# Altium footprint library misc.PcbLib: 32 footprints (part 2 of 2)
Each footprint in its own frame and in the unit in brackets; x right, y up, seen from the top. Pads: shape width x height; smd on the part's side, far side on the other; paste and mask are expansions set on the pad; w line width, h text height; cw(c..) or ccw(c..) is an arc to the next point about the centre after c.
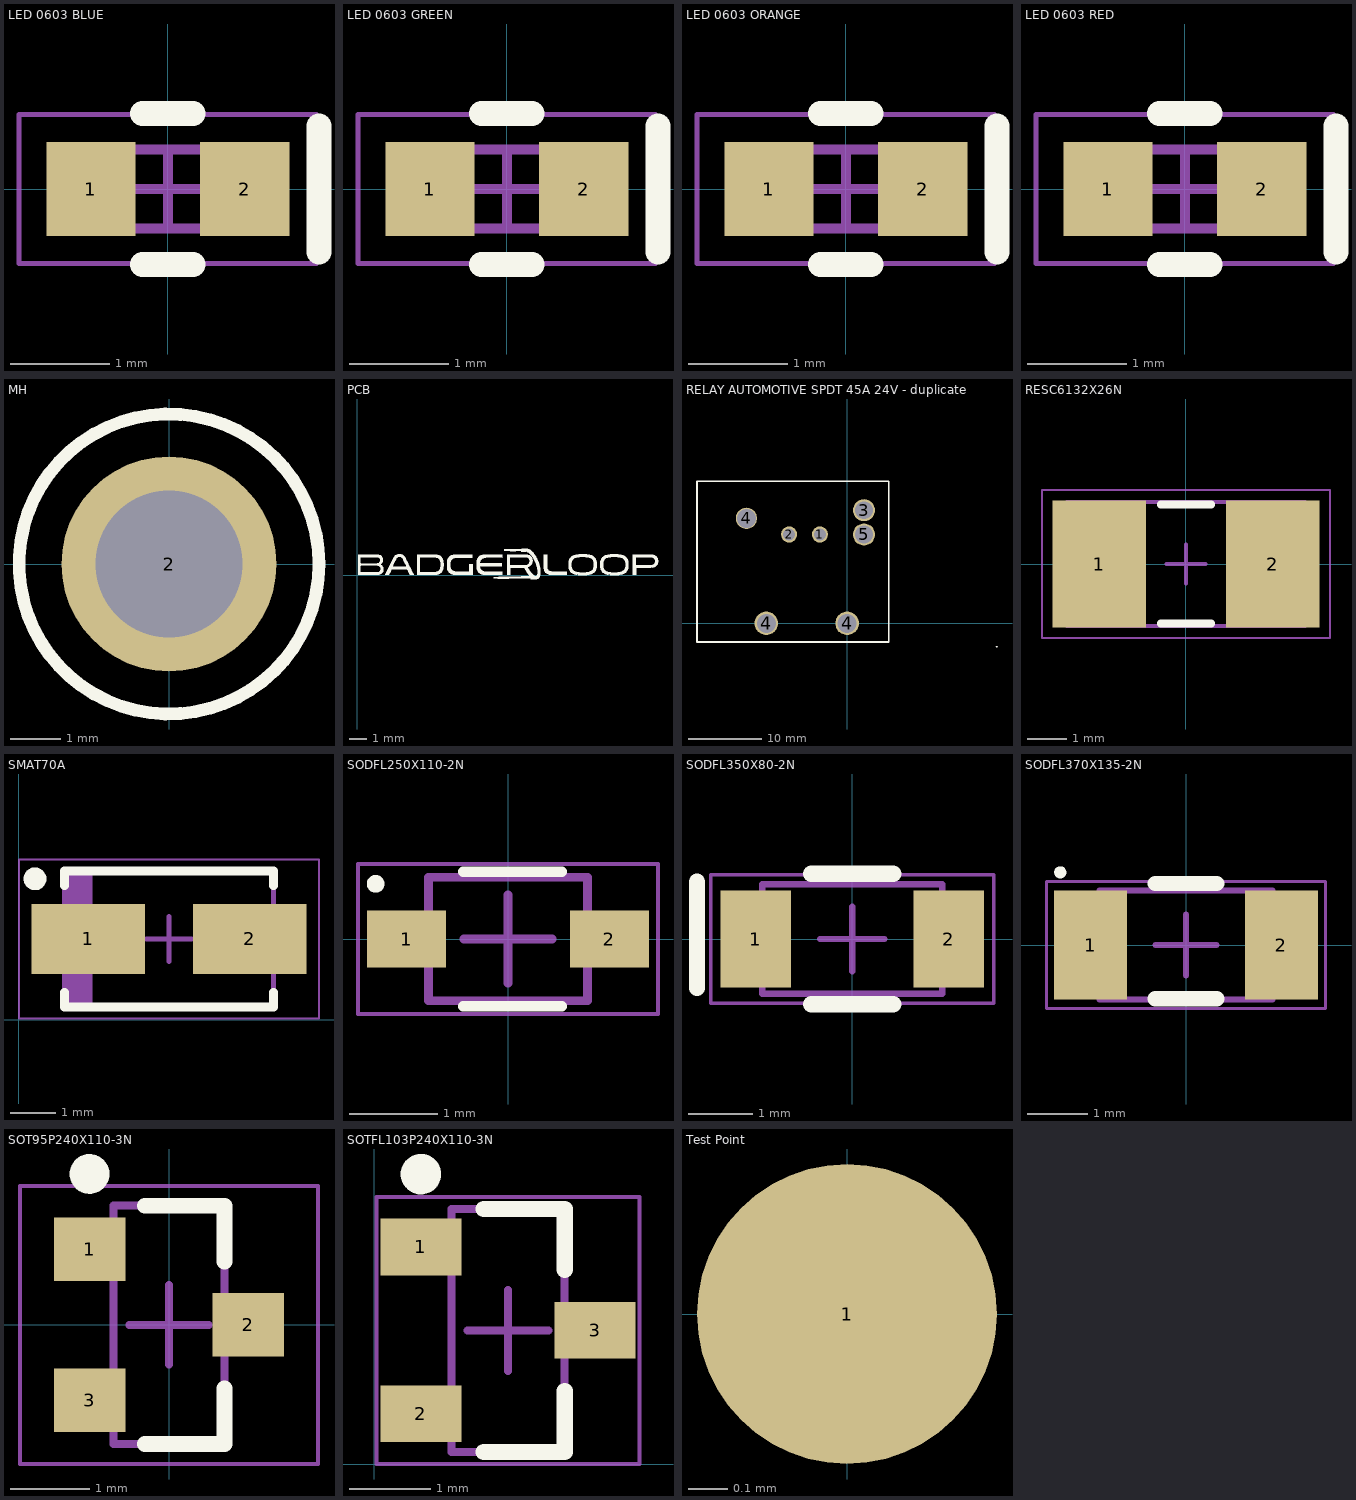
[diagram p1: the footprints below, top view; thin cyan lines are the x and y axes]

## LED 0603 BLUE [mm] "Chip Diode, 2-Leads, Body 1.60x0.80mm"
height 0.75
pads (2):
  rect 0.9x0.95 smd: 1(-0.775,0) 2(0.775,0)
Top Overlay:
  lines w0.254: -0.254,-0.762 0.254,-0.762 ; -0.254,0.762 0.254,0.762 ; 1.524,-0.635 1.524,0.635
Mechanical 13:
  lines w0.1: -0.8,-0.4 0.8,-0.4 0.8,0.4 -0.8,0.4 -0.8,-0.4
Mechanical 15:
  lines w0.05: -1.5,-0.75 1.5,-0.75 1.5,0.75 -1.5,0.75 -1.5,-0.75
  lines w0.1: -0.4,0 0.4,0 ; 0,-0.4 0,0.4
3D body: height 0.8, standoff 0, extent 0.4,-0.4 0.8,0.4
3D body: height 0.8, standoff 0, extent -0.8,-0.4 -0.4,0.4
3D body: height 0.8, standoff 0, extent -0.4,-0.4 0.4,0.4

## LED 0603 GREEN [mm] "Chip Diode, 2-Leads, Body 1.60x0.80mm, IPC Medium Density"
height 0.8
pads (2):
  rect 0.9x0.95 smd: 1(-0.775,0) 2(0.775,0)
Top Overlay:
  lines w0.254: -0.254,-0.762 0.254,-0.762 ; -0.254,0.762 0.254,0.762 ; 1.524,-0.635 1.524,0.635
Mechanical 13:
  lines w0.1: -0.8,-0.4 0.8,-0.4 0.8,0.4 -0.8,0.4 -0.8,-0.4
Mechanical 15:
  lines w0.05: -1.5,-0.75 1.5,-0.75 1.5,0.75 -1.5,0.75 -1.5,-0.75
  lines w0.1: -0.4,0 0.4,0 ; 0,-0.4 0,0.4
3D body: height 0.8, standoff 0, extent 0.4,-0.4 0.8,0.4
3D body: height 0.8, standoff 0, extent -0.8,-0.4 -0.4,0.4
3D body: height 0.8, standoff 0, extent -0.4,-0.4 0.4,0.4

## LED 0603 ORANGE [mm] "Chip Diode, 2-Leads, Body 1.60x0.80mm"
height 0.75
pads (2):
  rect 0.9x0.95 smd: 1(-0.775,0) 2(0.775,0)
Top Overlay:
  lines w0.254: -0.254,-0.762 0.254,-0.762 ; -0.254,0.762 0.254,0.762 ; 1.524,-0.635 1.524,0.635
Mechanical 13:
  lines w0.1: -0.8,-0.4 0.8,-0.4 0.8,0.4 -0.8,0.4 -0.8,-0.4
Mechanical 15:
  lines w0.05: -1.5,-0.75 1.5,-0.75 1.5,0.75 -1.5,0.75 -1.5,-0.75
  lines w0.1: -0.4,0 0.4,0 ; 0,-0.4 0,0.4
3D body: height 0.8, standoff 0, extent 0.4,-0.4 0.8,0.4
3D body: height 0.8, standoff 0, extent -0.8,-0.4 -0.4,0.4
3D body: height 0.8, standoff 0, extent -0.4,-0.4 0.4,0.4

## LED 0603 RED [mm] "Chip Diode, 2-Leads, Body 1.60x0.80mm, IPC Medium Density"
height 0.8
pads (2):
  rect 0.9x0.95 smd: 1(-0.775,0) 2(0.775,0)
Top Overlay:
  lines w0.254: -0.254,-0.762 0.254,-0.762 ; -0.254,0.762 0.254,0.762 ; 1.524,-0.635 1.524,0.635
Mechanical 13:
  lines w0.1: -0.8,-0.4 0.8,-0.4 0.8,0.4 -0.8,0.4 -0.8,-0.4
Mechanical 15:
  lines w0.05: -1.5,-0.75 1.5,-0.75 1.5,0.75 -1.5,0.75 -1.5,-0.75
  lines w0.1: -0.4,0 0.4,0 ; 0,-0.4 0,0.4
3D body: height 0.8, standoff 0, extent 0.4,-0.4 0.8,0.4
3D body: height 0.8, standoff 0, extent -0.8,-0.4 -0.4,0.4
3D body: height 0.8, standoff 0, extent -0.4,-0.4 0.4,0.4

## MH [mm] "#10 Mount Hole"
pads (1):
  round 4.3 hole 2.946 unplated: 2(0,0)
Top Overlay:
  circle w0.254: c0,0 r3
3D body "4_40_Screw.stp": height 2.84, standoff -6.35, extent -2.324,-2.578 2.324,2.07

## PCB [mm]
Top Overlay:
  drawing of 10 lines, arcs and shapes, not listed
  text ".Pcb_File_Name_No_Path" at 0.05,-2.794 h1.52
  text ".Revision" at 10.16,-2.794 h1.52
  text ".Designer" at 10.16,-5.063 h1.52
  text ".Engineer" at 0.05,-5.08 h1.52

## RELAY AUTOMOTIVE SPDT 45A 24V - duplicate [mm]
pads (7):
  round 2.2 hole 1.6: 1(-3.7,12.1) 2(-7.9,12.1)
  round 3 hole 2.4: 3(2.3,15.4) 5(2.3,12.1)
  round 2.896 hole 2.591: 4(-13.7,14.3)
  round 3.2 hole 2.591: 4(-11,0) 4(0,0)
Top Overlay:
  lines w0.254: 5.588,-2.54 -20.432,-2.54 -20.432,19.335 5.668,19.335 5.668,-2.54 ; 20.4,-3.175 20.32,-3.175 ; 20.32,-3.175 20.32,-3.175
3D body "1-1393277-8.stp": height 24.2, standoff 0, extent -20.385,-2.168 5.715,18.932

## RESC6132X26N [mm] "Chip Resistor, 2-Leads, Body 6.10x3.18mm, IPC Medium Density"
height 2.57
pads (2):
  rect 2.4x3.25 smd: 1(-2.225,0) 2(2.225,0)
Top Overlay:
  lines w0.2: -0.65,-1.525 0.65,-1.525 ; -0.65,1.525 0.65,1.525
Mechanical 13:
  lines w0.1: -3.05,-1.59 -3.05,1.59 3.05,1.59 3.05,-1.59 -3.05,-1.59
Mechanical 15:
  lines w0.05: -3.7,-1.9 -3.7,1.9 3.7,1.9 3.7,-1.9 -3.7,-1.9
  lines w0.1: -0.5,0 0.5,0 ; 0,-0.5 0,0.5
3D body: height 2.57, standoff 0, extent -1.05,-1.59 1.05,1.59
3D body: height 2.57, standoff 0, extent -3.05,-1.59 -1.05,1.59
3D body: height 2.57, standoff 0, extent 1.05,-1.59 3.05,1.59

## SMAT70A [mm]
pads (2):
  rect 2.5x1.55 smd: 1(1.524,1.778) 2(5.08,1.778)
Top Overlay:
  circle w0.25: c0.352,3.103 r0.125
  lines w0.2: 1.002,0.603 1.002,0.278 5.602,0.278 5.602,0.603 ; 1.002,2.953 1.002,3.278 5.602,3.278 5.602,2.953
Mechanical 13:
  rectangle: 1.002,0.318 1.621,3.238
  lines w0.1: 1.002,0.318 1.002,3.238 5.602,3.238 5.602,0.318 1.002,0.318
Mechanical 15:
  lines w0.05: 0,0.028 0,3.528 6.604,3.528 6.604,0.028 0,0.028
  lines w0.1: 2.802,1.778 3.802,1.778 ; 3.302,1.278 3.302,2.278
3D body "DIOM4326X23N.step": height 2.3, standoff 0, extent 0.782,0.318 5.822,3.238

## SODFL250X110-2N [mm] "SODFL, 2-Leads, Body 1.30x2.50mm, IPC Medium Density"
height 1.1
pads (2):
  rect 0.9x0.65 smd: 1(-1.15,0) 2(1.15,0)
Top Overlay:
  circle w0.1: c-1.5,0.625 r0.05
  lines w0.12: -0.508,-0.762 0.61,-0.762 ; -0.508,0.762 0.61,0.762
Mechanical 13:
  lines w0.1: -0.9,-0.7 -0.9,0.7 0.9,0.7 0.9,-0.7 -0.9,-0.7
Mechanical 15:
  lines w0.05: -1.7,-0.85 -1.7,0.85 1.7,0.85 1.7,-0.85 -1.7,-0.85
  lines w0.1: -0.5,0 0.5,0 ; 0,-0.5 0,0.5
3D body "SODFL250X110-2N.step": height 1.1, standoff 0, extent -1.25,-0.7 1.25,0.7

## SODFL350X80-2N [mm] "SODFL, 2-Leads, Body 1.60x3.50mm, IPC Medium Density"
height 0.8
pads (2):
  rect 1.1x1.5 smd: 1(-1.5,0) 2(1.5,0)
Top Overlay:
  lines w0.254: -2.413,-0.762 -2.413,0.889 ; -0.635,-1.016 0.635,-1.016 ; -0.635,1.016 0.635,1.016
Mechanical 13:
  lines w0.1: -1.4,-0.85 -1.4,0.85 1.4,0.85 1.4,-0.85 -1.4,-0.85
Mechanical 15:
  lines w0.05: -2.2,-1 -2.2,1 2.2,1 2.2,-1 -2.2,-1
  lines w0.1: -0.5,0 0.5,0 ; 0,-0.5 0,0.5
3D body: height 0.8, standoff 0, extent -1.4,-0.85 1.4,0.85

## SODFL370X135-2N [mm] "SODFL, 2-Leads, Body 1.60x3.70mm, IPC Medium Density"
height 1.35
pads (2):
  rect 1.2x1.8 smd: 1(-1.575,0) 2(1.575,0)
Top Overlay:
  circle w0.1: c-2.075,1.2 r0.05
  lines w0.254: -0.508,-0.889 0.508,-0.889 ; -0.508,1.016 0.508,1.016
Mechanical 13:
  lines w0.1: -1.425,-0.9 1.425,-0.9 1.425,0.9 -1.425,0.9 -1.425,-0.9
Mechanical 15:
  lines w0.05: -2.3,-1.05 2.3,-1.05 2.3,1.05 -2.3,1.05 -2.3,-1.05
  lines w0.1: -0.5,0 0.5,0 ; 0,-0.5 0,0.5
3D body: height 1.35, standoff 0, extent -1.425,-0.9 1.425,0.9

## SOT95P240X110-3N [mm] "SOT23, 3-Leads, Body 2.90x2.40mm, Pitch 0.95mm, IPC Medium Density"
height 1.1
pads (3):
  rect 0.9x0.8 smd: 1(-1,0.95) 2(1,0) 3(-1,-0.95)
Top Overlay:
  circle w0.25: c-1,1.9 r0.125
  lines w0.2: -0.3,-1.5 0.7,-1.5 0.7,-0.8 ; -0.3,1.5 0.7,1.5 0.7,0.8
Mechanical 13:
  lines w0.1: -0.7,-1.5 0.7,-1.5 0.7,1.5 -0.7,1.5 -0.7,-1.5
Mechanical 15:
  lines w0.05: -1.875,-1.75 1.875,-1.75 1.875,1.75 -1.875,1.75 -1.875,-1.75
  lines w0.1: -0.5,0 0.5,0 ; 0,-0.5 0,0.5
3D body: height 1.1, standoff 0.05, extent -0.7,-1.5 0.7,1.5

## SOTFL103P240X110-3N [mm]
pads (3):
  rect 1x0.7 smd: 1(0.576,2.681) 2(0.576,0.621) 3(2.726,1.651)
Top Overlay:
  circle w0.25: c0.576,3.581 r0.125
  lines w0.2: 1.351,0.151 2.351,0.151 2.351,0.901 ; 1.351,3.151 2.351,3.151 2.351,2.401
Mechanical 13:
  lines w0.1: 0.951,0.151 2.351,0.151 2.351,3.151 0.951,3.151 0.951,0.151
Mechanical 15:
  lines w0.05: 0.026,0.001 3.276,0.001 3.276,3.301 0.026,3.301 0.026,0.001
  lines w0.1: 1.151,1.651 2.151,1.651 ; 1.651,1.151 1.651,2.151
3D body "SOTFL103P240X110-3N.step": height 1.1, standoff 0, extent 0.451,0.153 2.851,3.149

## STL90N6F7 [mm]

## Test Point [mil] "SMD Test Point"
pads (1):
  round 30 smd: 1(0,0)